# EAGLE library part ML60 (library CON_HARTING_ML)
3M
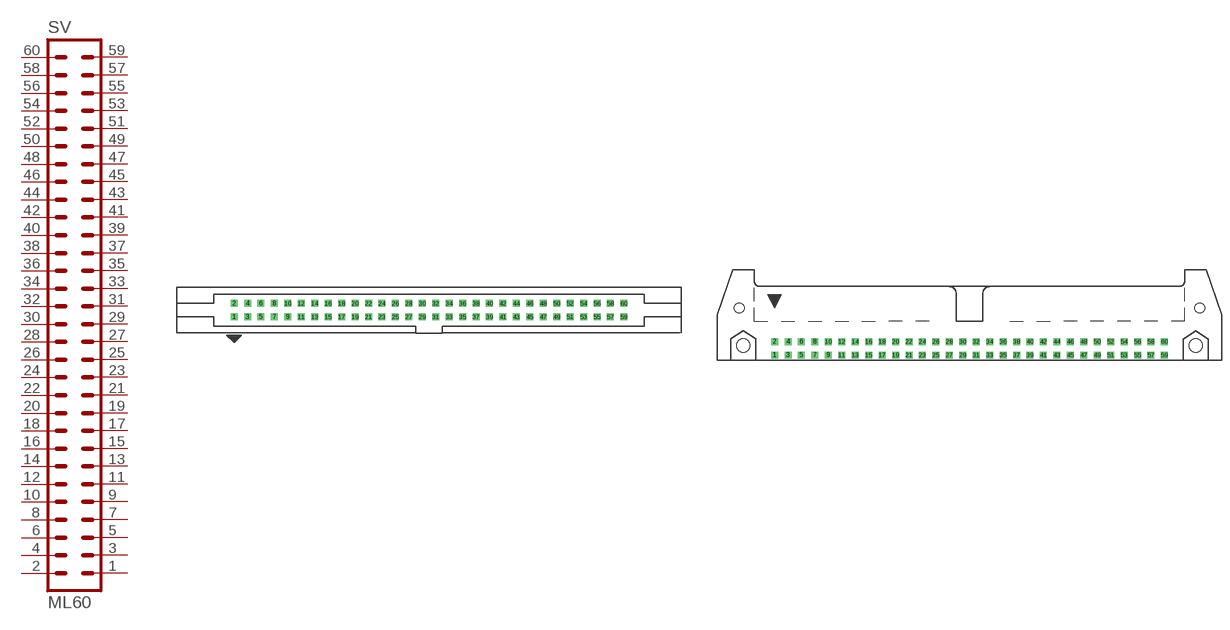
[diagram p18: symbol with the pads of 3M_60; footprints 3M_60, 3M_60L]

Designator prefix SV

## ML603M  [3M_60]
1  1  pas
2  2  pas
3  3  pas
4  4  pas
5  5  pas
6  6  pas
7  7  pas
8  8  pas
9  9  pas
10  10  pas
11  11  pas
12  12  pas
13  13  pas
14  14  pas
15  15  pas
16  16  pas
17  17  pas
18  18  pas
19  19  pas
20  20  pas
21  21  pas
22  22  pas
23  23  pas
24  24  pas
25  25  pas
26  26  pas
27  27  pas
28  28  pas
29  29  pas
30  30  pas
31  31  pas
32  32  pas
33  33  pas
34  34  pas
35  35  pas
36  36  pas
37  37  pas
38  38  pas
39  39  pas
40  40  pas
41  41  pas
42  42  pas
43  43  pas
44  44  pas
45  45  pas
46  46  pas
47  47  pas
48  48  pas
49  49  pas
50  50  pas
51  51  pas
52  52  pas
53  53  pas
54  54  pas
55  55  pas
56  56  pas
57  57  pas
58  58  pas
59  59  pas
60  60  pas

## ML603ML  [3M_60L]
Pads as for 3M_60

## Footprint 3M_60 (pad centres in mm)
3M
drill 0.813 square: 1 -36.83,-1.27; 2 -36.83,1.27; 3 -34.29,-1.27; 4 -34.29,1.27; 5 -31.75,-1.27; 6 -31.75,1.27; 7 -29.21,-1.27; 8 -29.21,1.27; 9 -26.67,-1.27; 10 -26.67,1.27; 11 -24.13,-1.27; 12 -24.13,1.27; 13 -21.59,-1.27; 14 -21.59,1.27; 15 -19.05,-1.27; 16 -19.05,1.27; 17 -16.51,-1.27; 18 -16.51,1.27; 19 -13.97,-1.27; 20 -13.97,1.27; 21 -11.43,-1.27; 22 -11.43,1.27; 23 -8.89,-1.27; 24 -8.89,1.27; 25 -6.35,-1.27; 26 -6.35,1.27; 27 -3.81,-1.27; 28 -3.81,1.27; 29 -1.27,-1.27; 30 -1.27,1.27; 31 1.27,-1.27; 32 1.27,1.27; 33 3.81,-1.27; 34 3.81,1.27; 35 6.35,-1.27; 36 6.35,1.27; 37 8.89,-1.27; 38 8.89,1.27; 39 11.43,-1.27; 40 11.43,1.27; 41 13.97,-1.27; 42 13.97,1.27; 43 16.51,-1.27; 44 16.51,1.27; 45 19.05,-1.27; 46 19.05,1.27; 47 21.59,-1.27; 48 21.59,1.27; 49 24.13,-1.27; 50 24.13,1.27; 51 26.67,-1.27; 52 26.67,1.27; 53 29.21,-1.27; 54 29.21,1.27; 55 31.75,-1.27; 56 31.75,1.27; 57 34.29,-1.27; 58 34.29,1.27; 59 36.83,-1.27; 60 36.83,1.27

## Footprint 3M_60L (pad centres in mm)
3M
drill 0.813 square: 1 -36.83,-5.08; 2 -36.83,-2.54; 3 -34.29,-5.08; 4 -34.29,-2.54; 5 -31.75,-5.08; 6 -31.75,-2.54; 7 -29.21,-5.08; 8 -29.21,-2.54; 9 -26.67,-5.08; 10 -26.67,-2.54; 11 -24.13,-5.08; 12 -24.13,-2.54; 13 -21.59,-5.08; 14 -21.59,-2.54; 15 -19.05,-5.08; 16 -19.05,-2.54; 17 -16.51,-5.08; 18 -16.51,-2.54; 19 -13.97,-5.08; 20 -13.97,-2.54; 21 -11.43,-5.08; 22 -11.43,-2.54; 23 -8.89,-5.08; 24 -8.89,-2.54; 25 -6.35,-5.08; 26 -6.35,-2.54; 27 -3.81,-5.08; 28 -3.81,-2.54; 29 -1.27,-5.08; 30 -1.27,-2.54; 31 1.27,-5.08; 32 1.27,-2.54; 33 3.81,-5.08; 34 3.81,-2.54; 35 6.35,-5.08; 36 6.35,-2.54; 37 8.89,-5.08; 38 8.89,-2.54; 39 11.43,-5.08; 40 11.43,-2.54; 41 13.97,-5.08; 42 13.97,-2.54; 43 16.51,-5.08; 44 16.51,-2.54; 45 19.05,-5.08; 46 19.05,-2.54; 47 21.59,-5.08; 48 21.59,-2.54; 49 24.13,-5.08; 50 24.13,-2.54; 51 26.67,-5.08; 52 26.67,-2.54; 53 29.21,-5.08; 54 29.21,-2.54; 55 31.75,-5.08; 56 31.75,-2.54; 57 34.29,-5.08; 58 34.29,-2.54; 59 36.83,-5.08; 60 36.83,-2.54
hole 2.54 at -42.748,-3.277
hole 2.54 at 42.748,-3.277